# EAGLE library part 687308124422 (library Wuerth_Elektronik_eiCan_03_ZIF_Connectors_Flat_Flexible_Cable)
WR-FPC-0.50mm SMT ZIF Vertical Type A,pins 8
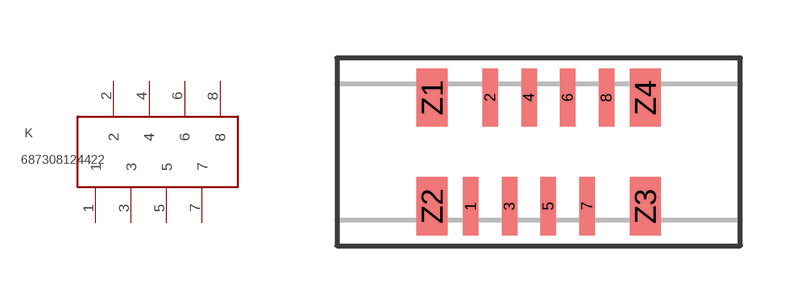
[diagram p107: symbol with the pads of 687308124422; footprint 687308124422]

Designator prefix K

## 687308124422  [687308124422]
1  1
2  2
3  3
4  4
5  5
6  6
7  7
8  8

## Footprint 687308124422 (pad centres in mm)
WR-FPC-0.50mm SMT ZIF Vertical Type A,pins 8
smd 0.4 x 1.5: 1 -1,-1.4; 2 -0.5,1.4; 3 0,-1.4; 4 0.5,1.4; 5 1,-1.4; 6 1.5,1.4; 7 2,-1.4; 8 2.5,1.4
smd 0.8 x 1.5: Z1 -2,1.4; Z2 -2,-1.4; Z3 3.5,-1.4; Z4 3.5,1.4